# EAGLE library part 50281-005 (library con-aces-50281-series)
ACES CONNECTORS 50281 SERIES ACES Connecors 50281
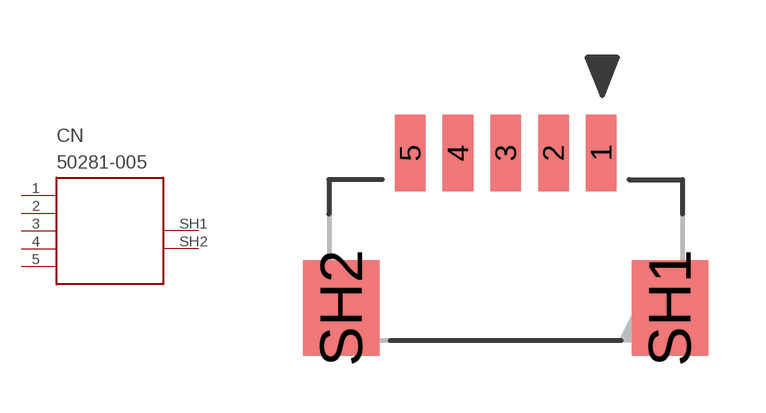
[diagram p1: symbol with the pads of 50281-005; footprint 50281-005]

Designator prefix CN

## 50281-005  [50281-005]
1  1
2  2
3  3
4  4
5  5
SH1  SH1
SH2  SH2

## Footprint 50281-005 (pad centres in mm)
smd 0.8 x 2: 1 2.5,1.9; 2 1.25,1.9; 3 0,1.9; 4 -1.25,1.9; 5 -2.5,1.9
smd 2 x 2.5: SH1 4.3,-2.15; SH2 -4.3,-2.15